# Altium footprint library PcbLib1.PcbLib: 4 footprints
Each footprint in its own frame and in the unit in brackets; x right, y up, seen from the top. Pads: shape width x height; smd on the part's side, far side on the other; paste and mask are expansions set on the pad; w line width, h text height; cw(c..) or ccw(c..) is an arc to the next point about the centre after c.
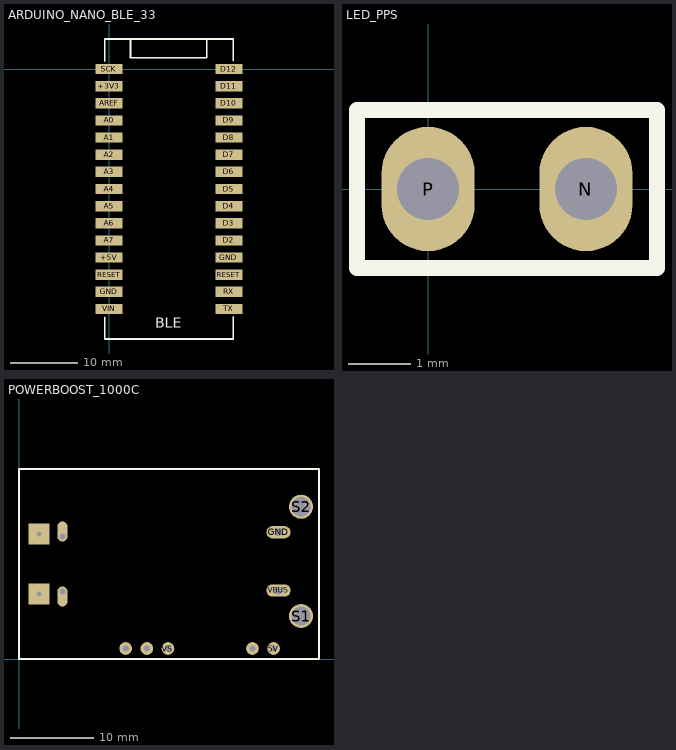
[diagram p0: the footprints below, top view; thin cyan lines are the x and y axes]

## ARDUINO_NANO_BLE_33 [mil] "Arduino Nano 33 BLE ABX00030"
pads (30):
  rect 160x60 smd: +3V3(0,-100) +5V(0,-1100) A0(0,-300) A1(0,-400) A2(0,-500) A3(0,-600) A4(0,-700) A5(0,-800) A6(0,-900) A7(0,-1000) AREF(0,-200) D2(700,-1000) D3(700,-900) D4(700,-800) D5(700,-700) D6(700,-600) D7(700,-500) D8(700,-400) D9(700,-300) D10(700,-200) D11(700,-100) D12(700,0) GND(0,-1300) GND(700,-1100) RESET(0,-1200) RESET(700,-1200) RX(700,-1300) SCK(0,0) TX(700,-1400) VIN(0,-1400)
Top Overlay:
  lines w10: -25,-1450 -25,-1575 725,-1575 725,-1445 ; -25,45 -25,175 725,175 725,50 ; 125,175 125,65 570,65 570,175
  text "BLE" at 270.03,-1510 h60

## EEPROM [mil] "Generic layout for 8-pin SM IC"

## LED_PPS [mm] "LED for PPS Sensor"
pads (2):
  oval 1.5x2 hole 1: N(2.54,0) P(0,0)
Top Overlay:
  lines w0.254: -1.143,-1.27 3.683,-1.27 3.683,1.27 -1.143,1.27 -1.143,-1.27
Bottom Overlay:
  lines w0.254: -1.143,-1.27 3.683,-1.27 3.683,1.27 -1.143,1.27 -1.143,-1.27

## POWERBOOST_1000C [mil] "USB charger and 3.7-5V DC-DC Converter"
pads (13):
  round 60 hole 30: 5V(1205,50) Bat(605,50) GND(1105,50) USB(505,50) VS(705,50)
  oval 114.8x57.4 / inner round 0 / far side oval 114.8x57.4 hole 37.4: GND(1228.31,600.3) VBUS(1228.31,324.7)
  round 114.17 / inner round 0 / far side round 114.17 hole 90.55: S1(1335,203.84) S2(1335,721.16)
  oval 47.56x95.12 / inner round 0 / far side oval 47.56x95.12 hole 27.56 copper offset 0,23.78: SPRT-1(205.43,579.92)
  oval 47.56x95.12 / inner round 0 / far side oval 47.56x95.12 hole 27.56 copper offset 0,-23.78: SPRT-2(205.43,320.08)
  rect 98.43x98.43 / inner round 0 / far side rect 98.43x98.43 hole 23.62: SPRT-3(95.2,591.73) SPRT-4(95.2,308.27)
Top Overlay:
  lines w10: 0,0 0,900 1420,900 1420,0 0,0